# EAGLE library part 53261-0571 (library molex)
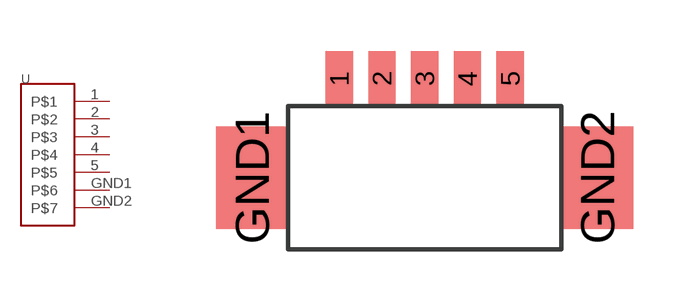
[diagram p93: symbol with the pads of 53261-0571; footprint 53261-0571]

Designator prefix -

## 53261-0571  [53261-0571]
1  P$1
2  P$2
3  P$3
4  P$4
5  P$5
GND1  P$6
GND2  P$7

## Footprint 53261-0571 (pad centres in mm)
smd 0.8 x 1.6: 1 -2.5,-0.8; 2 -1.25,-0.8; 3 0,-0.8; 4 1.25,-0.8; 5 2.5,-0.8
smd 2.1 x 3: GND1 -5.05,-3.7; GND2 5.05,-3.7